# EAGLE library part ROTARY (library Switches)
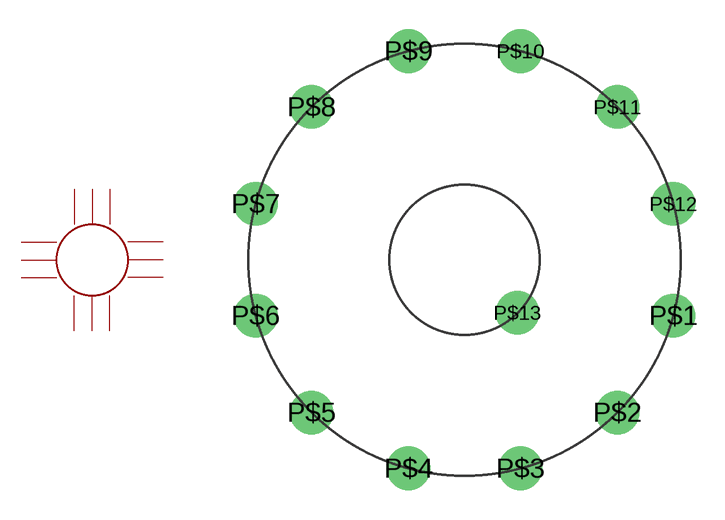
[diagram p0: symbol with the pads of ROTARY; footprint ROTARY]

Designator prefix -

## ROTARY  [ROTARY]
P$1  P$1
P$2  P$2
P$3  P$3
P$4  P$4
P$5  P$5
P$6  P$6
P$7  P$7
P$8  P$8
P$9  P$9
P$10  P$10
P$11  P$11
P$12  P$12
P$13  P$13

## Footprint ROTARY (pad centres in mm)
drill 1.499: P$1 10.721,-2.873; P$2 7.849,-7.849; P$3 2.873,-10.721; P$4 -2.873,-10.721; P$5 -7.849,-7.849; P$6 -10.721,-2.873; P$7 -10.721,2.873; P$8 -7.849,7.849; P$9 -2.873,10.721; P$10 2.873,10.721; P$11 7.849,7.849; P$12 10.721,2.873; P$13 2.72,-2.72